# EAGLE library part LMC6484 (library SolarJackets_Common)
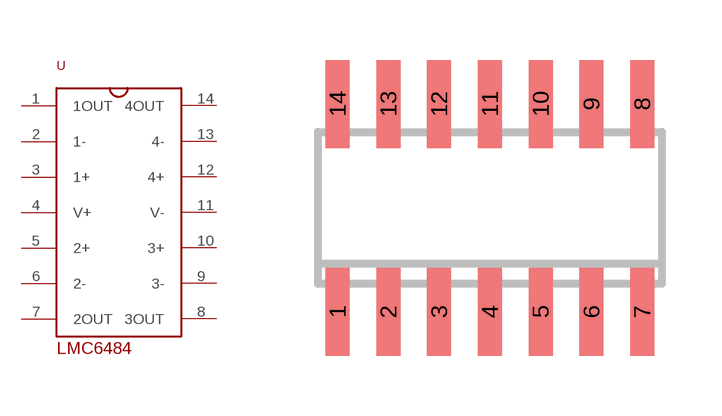
[diagram p3: symbol with the pads of SO14; footprint SO14]

Designator prefix -

## LMC6484  [SO14]
1  1OUT
2  1-
3  1+
4  V+
5  2+
6  2-
7  2OUT
8  3OUT
9  3-
10  3+
11  V-
12  4+
13  4-
14  4OUT

## Footprint SO14 (pad centres in mm)
SMALL OUTLINE INTEGRATED CIRCUIT body 3.9 mm/JEDEC MS-012AC
smd 0.6 x 2.2: 1 -3.81,-2.6; 2 -2.54,-2.6; 3 -1.27,-2.6; 4 0,-2.6; 5 1.27,-2.6; 6 2.54,-2.6; 7 3.81,-2.6; 8 3.81,2.6; 9 2.54,2.6; 10 1.27,2.6; 11 0,2.6; 12 -1.27,2.6; 13 -2.54,2.6; 14 -3.81,2.6